# Altium footprint library USB.PcbLib: 18 footprints (part 2 of 2)
Each footprint in its own frame and in the unit in brackets; x right, y up, seen from the top. Pads: shape width x height; smd on the part's side, far side on the other; paste and mask are expansions set on the pad; w line width, h text height; cw(c..) or ccw(c..) is an arc to the next point about the centre after c.
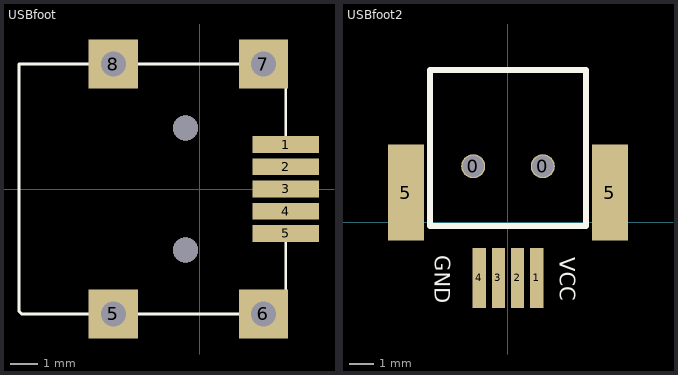
[diagram p1: the footprints below, top view; thin cyan lines are the x and y axes]

## USBfoot [mm]
pads (9):
  rect 2.4x0.6 smd: 1(3.1,1.6) 2(3.1,0.8) 3(3.1,0) 4(3.1,-0.8) 5(3.1,-1.6)
  rect 1.778x1.778 on Top hole 0.889: 5(-3.1,-4.5) 6(2.3,-4.5) 7(2.3,4.5) 8(-3.1,4.5)
via -0.5,2.2 diameter 0.9 hole 0.9
via -0.5,-2.2 diameter 0.9 hole 0.9
Top Overlay:
  lines w0.1: -4,4.5 -6.5,4.5 -6.5,-4.4 -6.4,-4.5 -3.9,-4.5 ; -2.3,-4.5 1.5,-4.5 ; -2.3,4.5 1.5,4.5 ; 3.1,-4.5 3.1,-1.8 ; 3.1,1.8 3.1,4.5

## USBfoot2 [mm]
pads (8):
  round 1 hole 0.9: 0(-1.45,2.325) 0(1.45,2.325)
  rect 0.55x2.5 smd: 1(1.2,-2.325) 2(0.4,-2.325) 3(-0.4,-2.325) 4(-1.2,-2.325)
  rect 1.5x4 smd: 5(-4.25,1.225) 5(4.25,1.225)
Top Overlay:
  lines w0.254: -3.25,-0.175 3.25,-0.175 3.25,6.325 -3.25,6.325 -3.25,-0.175
  text "GND" at -3.05,-1.375 h0.64
  text "VCC" at 2.15,-1.475 h0.64